# Altium footprint library My.PcbLib: 52 footprints (part 3 of 4)
Each footprint in its own frame and in the unit in brackets; x right, y up, seen from the top. Pads: shape width x height; smd on the part's side, far side on the other; paste and mask are expansions set on the pad; w line width, h text height; cw(c..) or ccw(c..) is an arc to the next point about the centre after c.
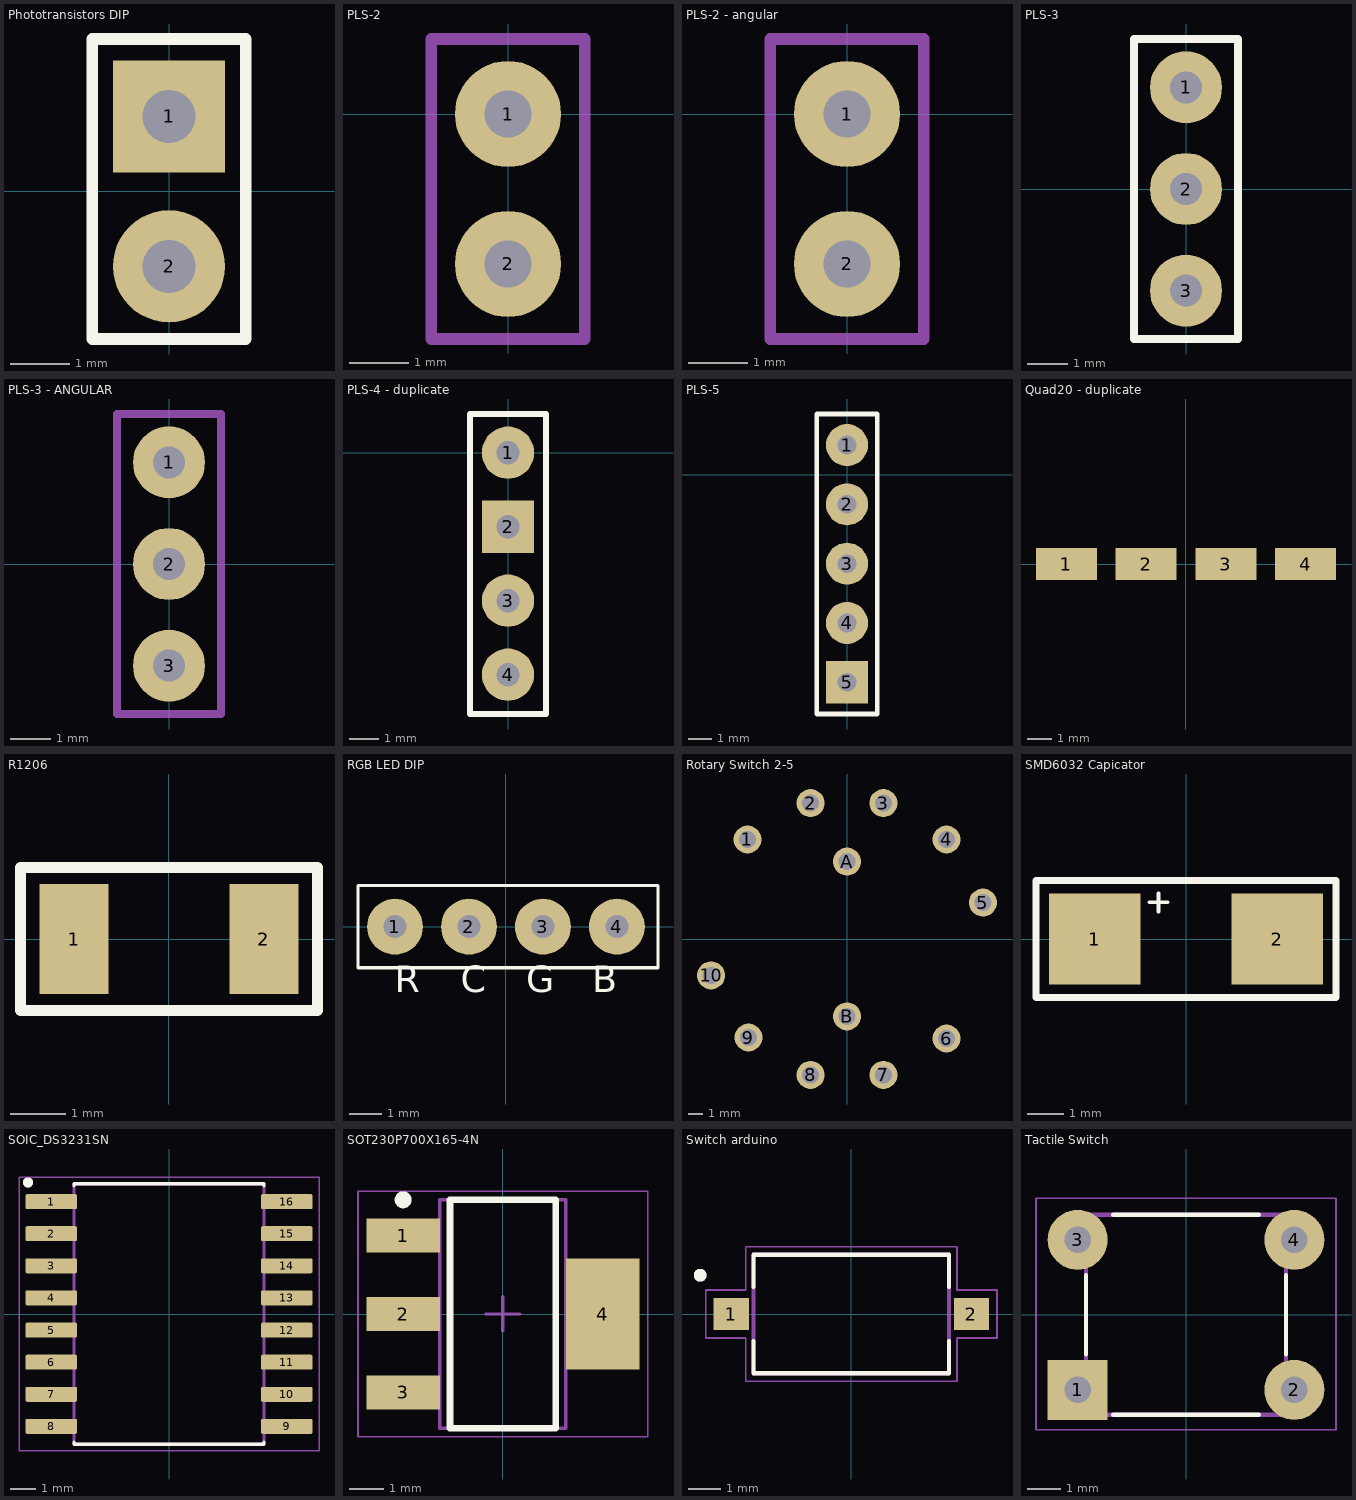
[diagram p2: the footprints below, top view; thin cyan lines are the x and y axes]

## Phototransistors DIP [mm]
height 7.3
pads (2):
  rect 1.9x1.9 hole 0.9: 1(0,1.27)
  round 1.9 hole 0.9: 2(0,-1.27)
Top Overlay:
  lines w0.2: -1.3,-2.5 1.3,-2.5 1.3,2.58 -1.3,2.58 -1.3,-2.5

## PLS-2 [mm] "Штыри однорядные 1x2 конт. шаг 2.54 мм, вертик. на плату"
pads (2):
  round 1.8 hole 0.8: 1(0,0) 2(0,-2.54)
Top Courtyard:
  lines w0.2: -1.3,-3.81 1.3,-3.81 1.3,1.27 -1.3,1.27 -1.3,-3.81
3D body "PLS-2_(DS1021_CONNFLY).stp": height 8.7, standoff -3, extent -1.24,-3.81 1.3,1.27

## PLS-2 - angular [mm] "Штыри однорядные 1x2 конт. шаг 2.54 мм, вертик. на плату"
pads (2):
  round 1.8 hole 0.8: 1(0,0) 2(0,-2.54)
Top Courtyard:
  lines w0.2: -1.3,-3.81 1.3,-3.81 1.3,1.27 -1.3,1.27 -1.3,-3.81
3D body "PLS-2RD_(DS1022_CONNFLY).stp": height 3.54, standoff -2, extent -0.32,-3.81 10.04,1.27

## PLS-3 [mm] "Штыри однорядные 1x4 конт. шаг 2.54 мм, вертик. на плату"
pads (3):
  round 1.8 hole 0.8: 1(0,2.54) 2(0,0) 3(0,-2.54)
Top Overlay:
  lines w0.2: -1.3,-3.75 1.3,-3.75 1.3,3.75 -1.3,3.75 -1.3,-3.75
3D body "PLS-3_(DS1021_CONNFLY).stp": height 8.7, standoff -3, extent -1.27,-3.81 1.27,3.81

## PLS-3 - ANGULAR [mm] "Штыри однорядные 1x4 конт. шаг 2.54 мм, вертик. на плату"
pads (3):
  round 1.8 hole 0.8: 1(0,2.54) 2(0,0) 3(0,-2.54)
Top Courtyard:
  lines w0.2: -1.3,-3.75 -1.3,3.75 1.3,3.75 1.3,-3.75 -1.3,-3.75

## PLS-4 - duplicate [mm] "Штыри однорядные 1x4 конт. шаг 2.54 мм, вертик. на плату"
pads (4):
  round 1.8 hole 0.8: 1(0,0) 3(0,-5.08) 4(0,-7.62)
  rect 1.8x1.8 hole 0.8: 2(0,-2.54)
Top Overlay:
  lines w0.2: -1.3,-8.97 -1.3,1.33 1.3,1.33 1.3,-8.97 -1.3,-8.97
3D body "PLS-2_(DS1021_CONNFLY).stp": height 8.7, standoff -3, extent -1.24,-8.89 1.3,-3.81
3D body "PLS-2_(DS1021_CONNFLY).stp": height 8.7, standoff -3, extent -1.24,-3.81 1.3,1.27

## PLS-5 [mm] "Штыри однорядные 1x4 конт. шаг 2.54 мм, вертик. на плату"
pads (5):
  round 1.8 hole 0.8: 1(0,1.27) 2(0,-1.27) 3(0,-3.81) 4(0,-6.35)
  rect 1.8x1.8 hole 0.8: 5(0,-8.89)
Top Overlay:
  lines w0.2: -1.3,-10.25 1.3,-10.25 1.3,2.6 -1.3,2.6 -1.3,-10.25

## Quad20 - duplicate [mm]
pads (4):
  rect 2.5x1.3 smd: 1(-4.912,0) 2(-1.637,0) 3(1.638,0) 4(4.913,0)

## R1206 [mm]
pads (2):
  rect 1.25x2 smd: 1(-1.725,0) 2(1.725,0)
Top Overlay:
  lines w0.2: -2.7,-1.3 -2.7,1.3 2.7,1.3 2.7,-1.3 -2.7,-1.3
3D body "RESC3115X07M.step": height 0.7, standoff 0, extent -1.625,-0.825 1.625,0.825

## RGB LED DIP [mm]
pads (4):
  round 1.7 hole 0.7: 1(-3.375,0) 2(-1.125,0) 3(1.125,0) 4(3.375,0)
Top Overlay:
  lines w0.1: -4.5,-1.25 -4.5,1.25 4.625,1.25 4.625,-1.25 -4.5,-1.25
  text "B" at 2.625,-2 h0.81
  text "G" at 0.625,-2 h0.81
  text "C" at -1.375,-2 h0.81
  text "R" at -3.375,-2 h0.81

## Rotary Switch 2-5 [mm] "Переключатель пооворотный галетный 5 позиций 2 группы контактов"
pads (12):
  round 2 hole 1.2: 1(-7.071,7.071) 2(-2.588,9.659) 3(2.588,9.659) 4(7.071,7.071) 5(9.659,2.588) 6(7.071,-7.071) 7(2.588,-9.659) 8(-2.588,-9.659) 9(-7,-7) 10(-9.659,-2.588) A(0,5.5) B(0,-5.5)

## SMD6032 Capicator [mm]
pads (2):
  rect 2.5x2.5 smd: 1(-2.5,0) 2(2.5,0)
Top Overlay:
  lines w0.1: -1,1 -0.5,1 ; -0.75,0.75 -0.75,1.25
  lines w0.2: -4.1,-1.6 4.1,-1.6 4.1,1.6 -4.1,1.6 -4.1,-1.6

## SOIC_DS3231SN [mm]
height 2.65
pads (16):
  rrect25% 2.05x0.59 smd: 1(-4.655,4.445) 2(-4.655,3.175) 3(-4.655,1.905) 4(-4.655,0.635) 5(-4.655,-0.635) 6(-4.655,-1.905) 7(-4.655,-3.175) 8(-4.655,-4.445) 9(4.655,-4.445) 10(4.655,-3.175) 11(4.655,-1.905) 12(4.655,-0.635) 13(4.655,0.635) 14(4.655,1.905) 15(4.655,3.175) 16(4.655,4.445)
Top Overlay:
  circle w0.2: c-5.575,5.2 r0.1
  lines w0.127: -3.75,-5.06 -3.75,-5.15 3.75,-5.15 3.75,-5.06 ; -3.75,5.06 -3.75,5.15 3.75,5.15 3.75,5.06
Mechanical 13:
  circle w0.2: c-5.575,5.2 r0.1
  lines w0.127: -3.75,-5.15 -3.75,5.15 3.75,5.15 3.75,-5.15 -3.75,-5.15
Top Courtyard (Mech15):
  lines w0.05: -5.93,-5.4 5.93,-5.4 5.93,5.4 -5.93,5.4 -5.93,-5.4
3D body "step_temp.STEP": height 2.65, standoff 0, extent -5.162,-5.15 5.162,5.15

## SOT230P700X165-4N [mm] "SOT223, 4-Leads, Body 6,30x7,00mm (avg), Pitch 2,30mm, IPC Medium Density"
height 1.65
pads (4):
  rect 2.15x1 smd: 1(-2.925,2.3) 2(-2.925,0) 3(-2.925,-2.3)
  rect 2.15x3.25 smd: 4(2.925,0)
Top Overlay:
  circle w0.25: c-2.925,3.35 r0.125
  lines w0.2: -1.55,-3.35 -1.55,3.35 1.55,3.35 1.55,-3.35 -1.55,-3.35
Mechanical 13:
  lines w0.1: -1.85,-3.35 -1.85,3.35 1.85,3.35 1.85,-3.35 -1.85,-3.35
Top Courtyard (Mech15):
  lines w0.05: -4.25,-3.6 -4.25,3.6 4.25,3.6 4.25,-3.6 -4.25,-3.6
  lines w0.1: -0.5,0 0.5,0 ; 0,-0.5 0,0.5
3D body: height 1.65, standoff 0.1, extent -1.85,-3.35 1.85,3.35

## Switch arduino [mm]
height 2.5
pads (2):
  rect 1.1x1 smd: 1(-3.75,0) 2(3.75,0)
Top Overlay:
  circle w0.2: c-4.72,1.21 r0.1
  lines w0.127: -3.05,-0.85 -3.05,-1.85 3.05,-1.85 3.05,-0.85 ; -3.05,0.85 -3.05,1.85 3.05,1.85 3.05,0.85
Mechanical 13:
  circle w0.2: c-4.72,1.21 r0.1
  lines w0.127: -3.05,-1.85 3.05,-1.85 3.05,1.85 -3.05,1.85 -3.05,-1.85
Top Courtyard (Mech15):
  lines w0.05: -4.55,-0.75 -4.55,0.75 -3.3,0.75 -3.3,2.1 3.3,2.1 3.3,0.75 4.55,0.75 4.55,-0.75 3.3,-0.75 3.3,-2.1 -3.3,-2.1 -3.3,-0.75 -4.55,-0.75
3D body "step_temp.STEP": height 2.5, standoff -0.05, extent -4.05,-1.85 4.05,1.85

## Tactile Switch [mm]
height 13
pads (4):
  rect 1.8x1.8 hole 0.8: 1(-3.25,-2.25)
  round 1.8 hole 0.8: 2(3.25,-2.25) 3(-3.25,2.25) 4(3.25,2.25)
Top Overlay:
  lines w0.127: -3,-1.182 -3,1.183 ; -2.183,-3 2.183,-3 ; -2.183,3 2.183,3 ; 3,-1.182 3,1.183
Mechanical 13:
  lines w0.127: -3,-3 -3,3 3,3 3,-3 -3,-3
Top Courtyard (Mech15):
  lines w0.05: -4.5,-3.454 -2.127,-3.454 2.127,-3.454 4.5,-3.454 4.5,3.5 -4.5,3.5 -4.5,-3.454
3D body "step_temp.STEP": height 5, standoff -3.55, extent -3.947,-3 3.947,3